# Altium schematic symbol library SCH - POWER - SWITCHMODE - TI TPS61251DSG.SchLib: 1 symbol
Pins are listed as number, name and electrical type; pins without a type are passive.

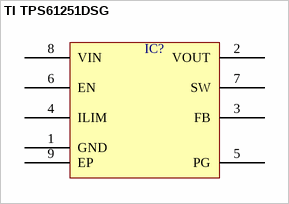
[diagram p0: symbol TI TPS61251DSG]

## TI TPS61251DSG
designator IC?  (value not drawn)
pins: 1 GND, 2 VOUT, 3 FB, 4 ILIM, 5 PG, 6 EN, 7 SW, 8 VIN, 9 EP